# Altium footprint library VCNL4010GS08.PcbLib: 1 footprints
Each footprint in its own frame and in the unit in brackets; x right, y up, seen from the top. Pads: shape width x height; smd on the part's side, far side on the other; paste and mask are expansions set on the pad; w line width, h text height; cw(c..) or ccw(c..) is an arc to the next point about the centre after c.
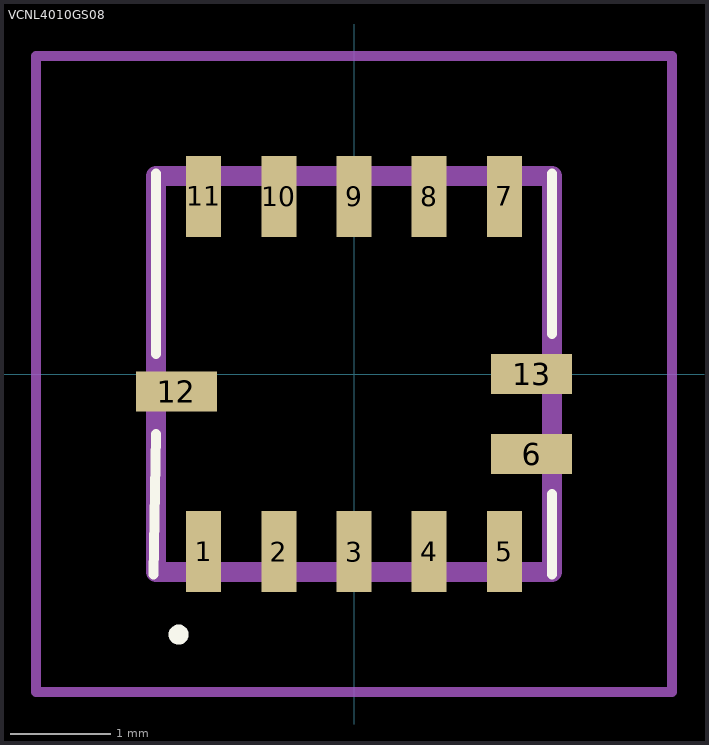
[diagram p0: the footprint, top view; thin cyan lines are the x and y axes]

## VCNL4010GS08 [mm]
pads (13):
  rect 0.35x0.805 smd: 1(-1.5,-1.772) 2(-0.75,-1.772) 3(0,-1.772) 4(0.75,-1.772) 5(1.5,-1.772) 7(1.5,1.772) 8(0.75,1.772) 9(0,1.772) 10(-0.75,1.772) 11(-1.5,1.772)
  rect 0.805x0.4 smd: 6(1.772,-0.8) 12(-1.772,-0.175) 13(1.772,0)
Top Overlay:
  lines w0.1: -2,-2 -1.975,-0.6 ; -1.975,0.2 -1.975,2 ; 1.975,-2 1.975,-1.2 ; 1.975,0.4 1.975,2 ; -1.8,-2.6 -1.8,-2.6 ; -1.8,-2.6 ccw(c-1.75,-2.6) -1.7,-2.6 ; -1.8,-2.6 cw(c-1.75,-2.6) -1.7,-2.6 ; -1.7,-2.6 -1.7,-2.6
Mechanical 15:
  lines w0.2: -1.975,-1.975 1.975,-1.975 1.975,1.975 -1.975,1.975 -1.975,-1.975
Mechanical 20:
  lines w0.1: -3.175,-3.175 3.175,-3.175 3.175,3.175 -3.175,3.175 -3.175,-3.175